# EAGLE library part FSIDE-6 (library con-amp1)
AMP connector
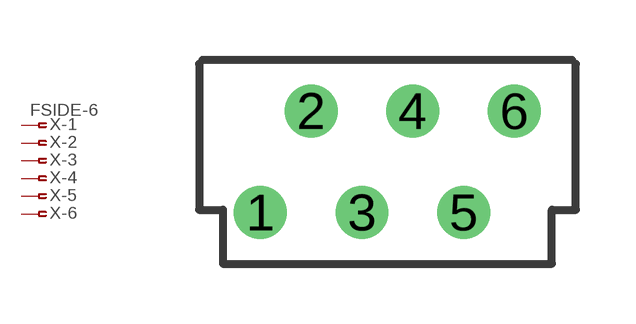
[diagram p110: symbol with the pads of FSIDE-6; footprint FSIDE-6]

Designator prefix X; gates -1=PIN-FV -2=PIN-F -3=PIN-F -4=PIN-F -5=PIN-F -6=PIN-F

## FSIDE-6  [FSIDE-6]
1  -1:1  pas
2  -2:1  pas
3  -3:1  pas
4  -4:1  pas
5  -5:1  pas
6  -6:1  pas

## Footprint FSIDE-6 (pad centres in mm)
AMP connector
drill 0.813 round: 1 -3.175,-1.27; 2 -1.905,1.27; 3 -0.635,-1.27; 4 0.635,1.27; 5 1.905,-1.27; 6 3.175,1.27